# EAGLE library part 615008160521 (library 632723100011_Eagle_WR-USB_rev19b)
WR-MJ Modular Jack THT Vertical Shielded EMI 8P8C MATERIAL PROPERTIES Insulator Material PA9T Insulator Flammability Rating UL94 V-0 Insulator Color Black Contact Material Copper Alloy Contact Plating 6u' on contact area Contact Type Stamped GENERAL INFORMATION Operating Temperature -40 up to +85 °C ELECTRICAL PROPERTIES Working Voltage 125 V (AC) Contact Resistance 35 mΩ RISO 1000 MΩ PACKAGING PROPERTIES Packaging Tray <https://katalog.we-online.com/media/images/v2/o161623v209%20Family_WR-MJTH_615008160521.jpg> Details see: https://katalog.we-online.com/en/em/MJ_THT_VERTICAL_SHIELDED_8P8C_EMI Created by Ella Wu 2019-11-05 2019(C) Wurth Elektronik
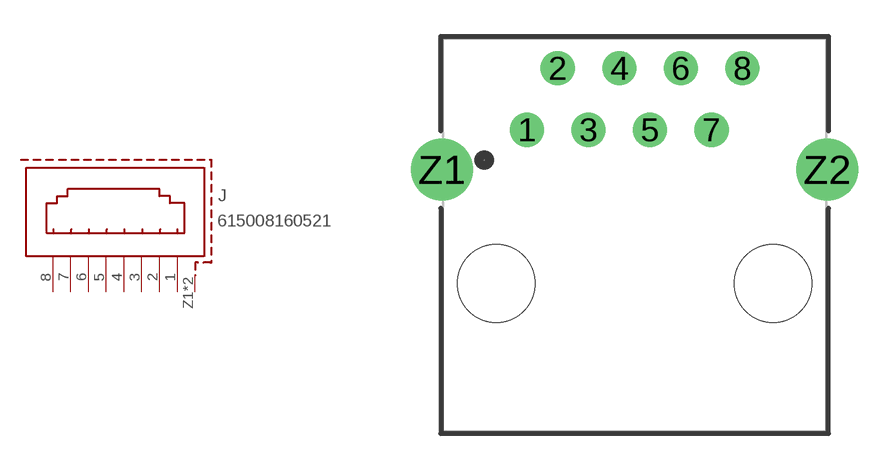
[diagram p201: symbol with the pads of 615008160521; footprint 615008160521]

Designator prefix J

## 615008160521  [615008160521]
1  1  pas
2  2  pas
3  3  pas
4  4  pas
5  5  pas
6  6  pas
7  7  pas
8  8  pas
Z1  SHIELD  pas
Z2  SHIELD  pas

## Footprint 615008160521 (pad centres in mm)
drill 0.9: 1 -4.445,6.35; 2 -3.175,8.89; 3 -1.905,6.35; 4 -0.635,8.89; 5 0.635,6.35; 6 1.905,8.89; 7 3.175,6.35; 8 4.445,8.89
drill 1.7: Z1 -7.95,4.71; Z2 7.95,4.71
hole 3.2 at -5.715,0
hole 3.2 at 5.715,0